# Altium schematic symbol library ESP32-WROOM-32D.SchLib: 1 symbol
Pins are listed as number, name and electrical type; pins without a type are passive.

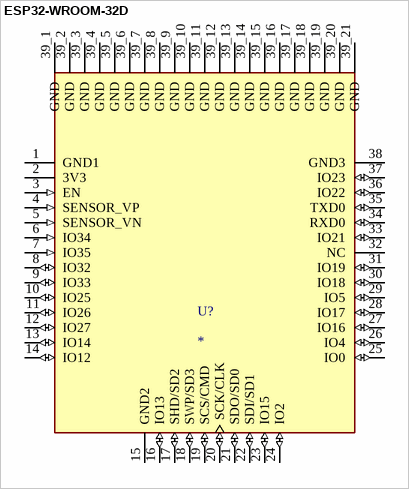
[diagram p0: symbol ESP32-WROOM-32D]

## ESP32-WROOM-32D
designator U?
Bluetooth, WiFi 802.11b/g/n, Bluetooth v4.2 +EDR, Class 1, 2 and 3 Transceiver Module 2.4GHz ~ 2.5GHz Integrated; MF: Espressif Systems; MP: ESP32-WROOM-32D; SnapEDA_Link: https://www.snapeda.com/parts/ESP32-WROOM-32D/Espressif+Systems/view-part/?ref=snap; Package: Non Standard Espressif Systems; Value: *; Check_prices: https://www.snapeda.com/parts/ESP32-WROOM-32D/Espressif+Systems/view-part/?ref=eda
footprint MODULE_ESP32-WROOM-32D
footprint MODULE_ESP32-WROOM-32D
pins: 1 GND1 (power), 2 3V3 (power), 3 EN (in), 4 SENSOR_VP (in), 5 SENSOR_VN (in), 6 IO34 (in), 7 IO35 (in), 8 IO32 (io), 9 IO33 (io), 10 IO25 (io), 11 IO26 (io), 12 IO27 (io), 13 IO14 (io), 14 IO12 (io), 15 GND2 (power), 16 IO13 (io), 17 SHD/SD2 (io), 18 SWP/SD3 (io), 19 SCS/CMD (io), 20 SCK/CLK (io), 21 SDO/SD0 (io), 22 SDI/SD1 (io), 23 IO15 (io), 24 IO2 (io), 25 IO0 (io), 26 IO4 (io), 27 IO16 (io), 28 IO17 (io), 29 IO5 (io), 30 IO18 (io), 31 IO19 (io), 32 NC, 33 IO21 (io), 34 RXD0 (io), 35 TXD0 (io), 36 IO22 (io), 37 IO23 (io), 38 GND3 (power), 39_1 GND (power), 39_2 GND (power), 39_3 GND (power), 39_4 GND (power), 39_5 GND (power), 39_6 GND (power), 39_7 GND (power), 39_8 GND (power), 39_9 GND (power), 39_10 GND (power), 39_11 GND (power), 39_12 GND (power), 39_13 GND (power), 39_14 GND (power), 39_15 GND (power), 39_16 GND (power), 39_17 GND (power), 39_18 GND (power), 39_19 GND (power), 39_20 GND (power), 39_21 GND (power)